# Altium footprint library CONV_R0.25S-0505_E.PcbLib: 1 footprints
Each footprint in its own frame and in the unit in brackets; x right, y up, seen from the top. Pads: shape width x height; smd on the part's side, far side on the other; paste and mask are expansions set on the pad; w line width, h text height; cw(c..) or ccw(c..) is an arc to the next point about the centre after c.
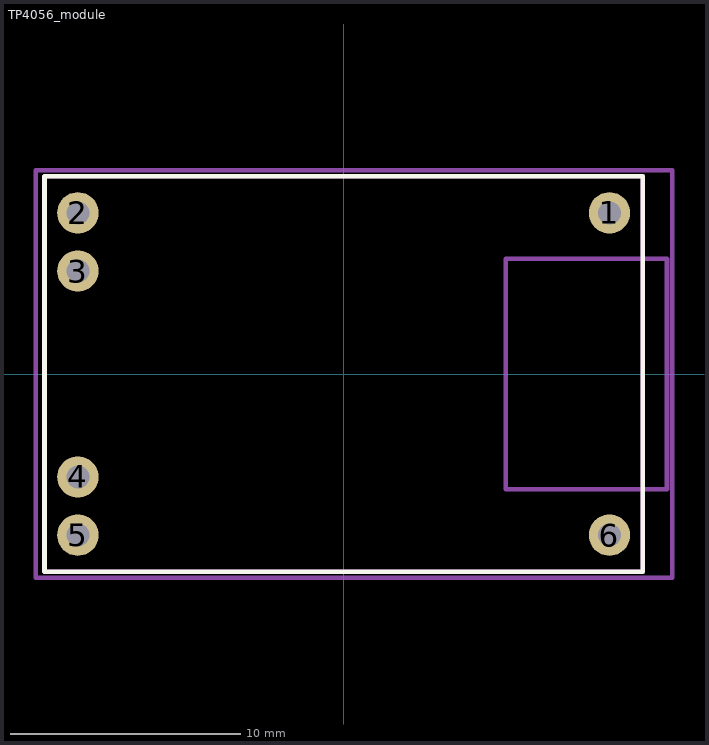
[diagram p0: the footprint, top view; thin cyan lines are the x and y axes]

## TP4056_module [mm]
pads (6):
  round 1.8 hole 1: 1(11.55,7) 2(-11.55,7) 3(-11.55,4.475) 4(-11.55,-4.475) 5(-11.55,-7) 6(11.55,-7)
Top Overlay:
  lines w0.2: -13,-8.6 13,-8.6 13,8.6 -13,8.6 -13,-8.6
Mechanical 13:
  lines w0.2: -13,4.4 -13,0 -13,4.475 ; -11.55,8.6 0,8.6 11.55,8.6 ; 13,-7 13,0 ; 13,3.5 13,0 ; 13,7 13,0 ; -13,-8.6 13,-8.6 13,8.6 -13,8.6 -13,-8.6 ; 7.05,-5 7.05,5 14.05,5 14.05,-3.95 14.05,-5 7.05,-5
Mechanical 15:
  lines w0.2: -13.375,-8.85 14.275,-8.85 14.275,8.85 13.25,8.85 -13.1,8.85 -13.375,8.85 -13.375,-8.85